# Altium footprint library ICs.PcbLib: 86 footprints (part 6 of 6)
Each footprint in its own frame and in the unit in brackets; x right, y up, seen from the top. Pads: shape width x height; smd on the part's side, far side on the other; paste and mask are expansions set on the pad; w line width, h text height; cw(c..) or ccw(c..) is an arc to the next point about the centre after c.
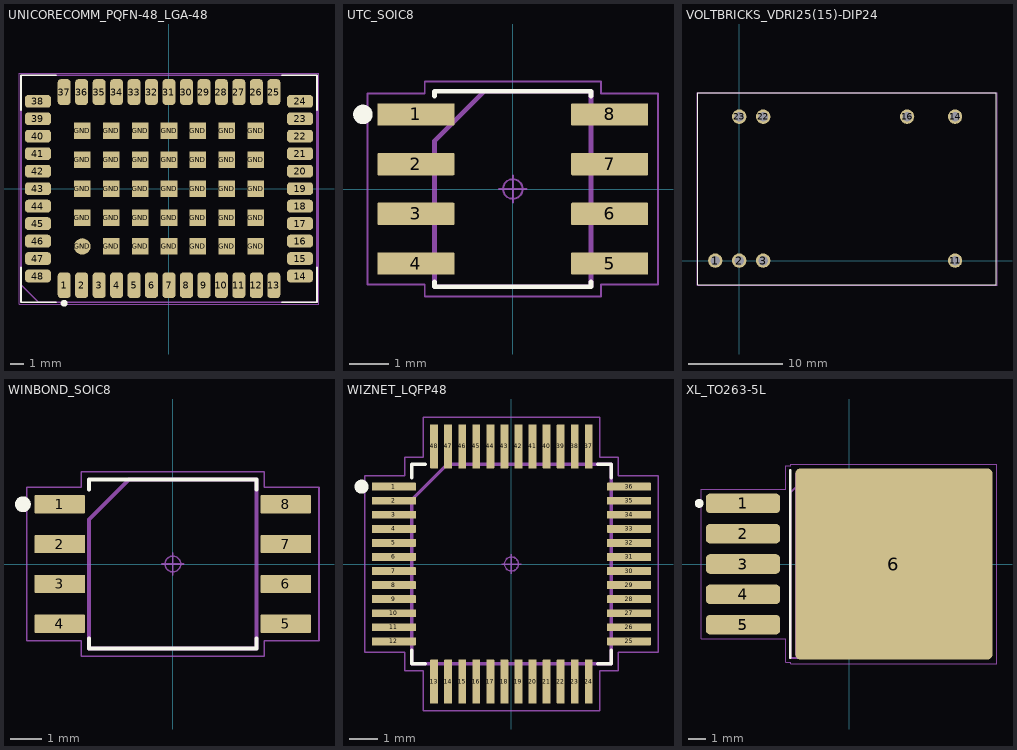
[diagram p5: the footprints below, top view; thin cyan lines are the x and y axes]

## UNICORECOMM_PQFN-48_LGA-48 [mm] "Pullback Quad Flat No-Lead (PQFN), 1.27 mm pitch; rect., 13 pin X 11 pin, 21.15 mm L X 16.15 mm W X 2.80 mm H body"
pads (83):
  rrect49% 0.93x1.87 smd: 1(-7.62,-7.02) 2(-6.35,-7.02) 3(-5.08,-7.02) 4(-3.81,-7.02) 5(-2.54,-7.02) 6(-1.27,-7.02) 7(0,-7.02) 8(1.27,-7.02) 9(2.54,-7.02) 10(3.81,-7.02) 11(5.08,-7.02) 12(6.35,-7.02) 13(7.62,-7.02) 25(7.62,7.02) 26(6.35,7.02) 27(5.08,7.02) 28(3.81,7.02) 29(2.54,7.02) 30(1.27,7.02) 31(0,7.02) 32(-1.27,7.02) 33(-2.54,7.02) 34(-3.81,7.02) 35(-5.08,7.02) 36(-6.35,7.02) 37(-7.62,7.02)
  rrect49% 1.87x0.93 smd: 14(9.52,-6.35) 15(9.52,-5.08) 16(9.52,-3.81) 17(9.52,-2.54) 18(9.52,-1.27) 19(9.52,0) 20(9.52,1.27) 21(9.52,2.54) 22(9.52,3.81) 23(9.52,5.08) 24(9.52,6.35) 38(-9.52,6.35) 39(-9.52,5.08) 40(-9.52,3.81) 41(-9.52,2.54) 42(-9.52,1.27) 43(-9.52,0) 44(-9.52,-1.27) 45(-9.52,-2.54) 46(-9.52,-3.81) 47(-9.52,-5.08) 48(-9.52,-6.35)
  round 1.2 smd: GND(-6.3,-4.2)
  rect 1.2x1.2 smd: GND(-6.3,-2.1) GND(-6.3,0) GND(-6.3,2.1) GND(-6.3,4.2) GND(-4.2,-4.2) GND(-4.2,-2.1) GND(-4.2,0) GND(-4.2,2.1) GND(-4.2,4.2) GND(-2.1,-4.2) GND(-2.1,-2.1) GND(-2.1,0) GND(-2.1,2.1) GND(-2.1,4.2) GND(0,-4.2) GND(0,-2.1) GND(0,0) GND(0,2.1) GND(0,4.2) GND(2.1,-4.2) GND(2.1,-2.1) GND(2.1,0) GND(2.1,2.1) GND(2.1,4.2) GND(4.2,-4.2) GND(4.2,-2.1) GND(4.2,0) GND(4.2,2.1) GND(4.2,4.2) GND(6.3,-4.2) GND(6.3,-2.1) GND(6.3,0) GND(6.3,2.1) GND(6.3,4.2)
Top Overlay:
  circle w0.25: c-7.62,-8.325 r0.125
  lines w0.12: -10.75,-5.71 -10.75,-8.25 -8.21,-8.25 ; -10.75,5.71 -10.75,8.25 -8.21,8.25 ; 8.21,-8.25 10.75,-8.25 10.75,-5.71 ; 8.21,8.25 10.75,8.25 10.75,5.71
Mechanical 11:
  lines w0.12: -10.75,-6.98 -10.75,8.25 10.75,8.25 10.75,-8.25 -9.48,-8.25 -10.75,-6.98
  text ".Designator" at -2.252,-0.226 h1
Mechanical 15:
  circle w0.05: c0,0 r0.25
  lines w0.05: -0.35,0 0.35,0 ; 0,-0.35 0,0.35 ; -10.9,-8.4 10.9,-8.4 10.9,8.4 -10.9,8.4 -10.9,-8.4
3D body "PQFN48P127_2115X1615X280L150X80.STEP": height 2.8, standoff 0, extent -10.75,-8.25 10.75,8.25

## UTC_SOIC8 [mm] "Small Outline IC (SOIC), 1.27 mm pitch; 8 pin, 4.90 mm L X 3.90 mm W X 1.75 mm H body"
pads (8):
  rrect10% 1.97x0.57 smd: 1(-2.475,1.905) 2(-2.475,0.635) 3(-2.475,-0.635) 4(-2.475,-1.905) 5(2.475,-1.905) 6(2.475,-0.635) 7(2.475,0.635) 8(2.475,1.905)
Top Overlay:
  circle w0.25: c-3.83,1.905 r0.125
  lines w0.12: -2,-2.37 -2,-2.5 2,-2.5 2,-2.37 ; -2,2.37 -2,2.5 2,2.5 2,2.37
Mechanical 11:
  lines w0.12: -2,-2.5 2,-2.5 2,2.5 -0.73,2.5 -2,1.23 -2,-2.5
  text ".Designator" at -2.252,-0.226 h1
Mechanical 15:
  circle w0.05: c0,0 r0.25
  lines w0.05: -0.35,0 0.35,0 ; 0,-0.35 0,0.35 ; -3.71,-2.44 -2.25,-2.44 -2.25,-2.75 2.25,-2.75 2.25,-2.44 3.71,-2.44 3.71,2.44 2.25,2.44 2.25,2.75 -2.25,2.75 -2.25,2.44 -3.71,2.44 -3.71,-2.44
3D body "UTC_SOIC8.STEP": height 1.75, standoff 0, extent -3.1,-2.5 3.1,2.5

## VOLTBRICKS_VDRI25(15)-DIP24 [mil]
pads (8):
  round 60 hole 39.37: 1(-100,0) 2(0,0) 3(100,0) 11(900,0) 14(900,600) 16(700,600) 22(100,600) 23(0,600)
Top Overlay:
  lines w4.72: -173,-100 -173,699.21 1071.09,699.21 1071.09,-100 -173,-100
Mechanical 2:
  lines w4.72: -176,-103 -176,700 1075,700 1075,-103 -176,-103
  text ".Designator" at 222.42,314.8 h78.74
3D body "URE_P-6WR3.stp": height 399.69, standoff -163.3, extent -173.07,-101 1071.07,698.29

## WINBOND_SOIC8 [mm] "Small Outline IC (SOIC), 1.27 mm pitch; 8 pin, 5.28 mm L X 5.23 mm W X 2.16 mm H body"
pads (8):
  rrect10% 1.61x0.58 smd: 1(-3.605,1.905) 2(-3.605,0.635) 3(-3.605,-0.635) 4(-3.605,-1.905) 5(3.605,-1.905) 6(3.605,-0.635) 7(3.605,0.635) 8(3.605,1.905)
Top Overlay:
  circle w0.25: c-4.78,1.905 r0.125
  lines w0.12: -2.67,-2.375 -2.67,-2.69 2.67,-2.69 2.67,-2.375 ; -2.67,2.375 -2.67,2.69 2.67,2.69 2.67,2.375
Mechanical 11:
  lines w0.12: -2.67,-2.69 -2.67,1.42 -1.4,2.69 2.67,2.69 2.67,-2.69 -2.67,-2.69
  text ".Designator" at -3.378,-0.339 h1.5
Mechanical 15:
  circle w0.05: c0,0 r0.25
  lines w0.05: -0.35,0 0.35,0 ; 0,-0.35 0,0.35 ; -4.66,-2.445 -4.66,2.445 -2.92,2.445 -2.92,2.94 2.92,2.94 2.92,2.445 4.66,2.445 4.66,-2.445 2.92,-2.445 2.92,-2.94 -2.92,-2.94 -2.92,-2.445 -4.66,-2.445
3D body "WINBOND_SOIC8.STEP": height 2.16, standoff 0, extent -4.05,-2.69 4.05,2.69

## WIZNET_LQFP48 [mm] "Quad Flat Pack (QFP), 0.50 mm pitch; square, 12 pin X 12 pin, 7.00 mm L X 7.00 mm W X 1.60 mm H body"
pads (48):
  rrect10% 1.56x0.28 smd: 1(-4.18,2.75) 2(-4.18,2.25) 3(-4.18,1.75) 4(-4.18,1.25) 5(-4.18,0.75) 6(-4.18,0.25) 7(-4.18,-0.25) 8(-4.18,-0.75) 9(-4.18,-1.25) 10(-4.18,-1.75) 11(-4.18,-2.25) 12(-4.18,-2.75) 25(4.18,-2.75) 26(4.18,-2.25) 27(4.18,-1.75) 28(4.18,-1.25) 29(4.18,-0.75) 30(4.18,-0.25) 31(4.18,0.25) 32(4.18,0.75) 33(4.18,1.25) 34(4.18,1.75) 35(4.18,2.25) 36(4.18,2.75)
  rrect10% 0.28x1.56 smd: 13(-2.75,-4.18) 14(-2.25,-4.18) 15(-1.75,-4.18) 16(-1.25,-4.18) 17(-0.75,-4.18) 18(-0.25,-4.18) 19(0.25,-4.18) 20(0.75,-4.18) 21(1.25,-4.18) 22(1.75,-4.18) 23(2.25,-4.18) 24(2.75,-4.18) 37(2.75,4.18) 38(2.25,4.18) 39(1.75,4.18) 40(1.25,4.18) 41(0.75,4.18) 42(0.25,4.18) 43(-0.25,4.18) 44(-0.75,4.18) 45(-1.25,4.18) 46(-1.75,4.18) 47(-2.25,4.18) 48(-2.75,4.18)
Top Overlay:
  circle w0.25: c-5.33,2.75 r0.125
  lines w0.12: -3.55,-3.07 -3.55,-3.55 -3.07,-3.55 ; -3.55,3.07 -3.55,3.55 -3.07,3.55 ; 3.07,-3.55 3.55,-3.55 3.55,-3.07 ; 3.07,3.55 3.55,3.55 3.55,3.07
Mechanical 11:
  lines w0.12: -3.55,-3.55 -3.55,2.28 -2.28,3.55 3.55,3.55 3.55,-3.55 -3.55,-3.55
  text ".Designator" at -4.511,-0.453 h2
Mechanical 15:
  circle w0.05: c0,0 r0.25
  lines w0.05: -0.35,0 0.35,0 ; 0,-0.35 0,0.35 ; -5.21,-3.14 -5.21,3.14 -3.8,3.14 -3.8,3.8 -3.14,3.8 -3.14,5.21 3.14,5.21 3.14,3.8 3.8,3.8 3.8,3.14 5.21,3.14 5.21,-3.14 3.8,-3.14 3.8,-3.8 3.14,-3.8 3.14,-5.21 -3.14,-5.21 -3.14,-3.8 -3.8,-3.8 -3.8,-3.14 -5.21,-3.14
3D body "WIZNET_LQFP48.STEP": height 1.6, standoff 0, extent -4.6,-4.6 4.6,4.6

## XL_TO263-5L [mm] "TO263-5L, DPAK, 1.70 mm pitch; 5 pin, 9.02 mm L X 10.16 mm W X 4.83 mm H body"
pads (6):
  rrect45% 4.17x1.1 smd: 1(-5.95,3.4) 2(-5.95,1.7) 3(-5.95,0) 4(-5.95,-1.7) 5(-5.95,-3.4)
  rrect5% 11.06x10.71 smd paste-11.06: 6(2.51,0)
Top Overlay:
  circle w0.25: c-8.405,3.4 r0.125
  lines w0.12: -3.305,-5.27 -3.305,5.27
Top Paste:
  drawing of 36 lines, arcs and shapes, not listed
Mechanical 11:
  lines w0.12: -3.305,-5.27 6.355,-5.27 6.355,5.27 -2.035,5.27 -3.305,4 -3.305,-5.27
  text ".Designator" at -2.378,-0.418 h1.5
Mechanical 12:
  lines w0.025: -2.985,-5.08 6.035,-5.08 6.035,5.08 -2.985,5.08 -2.985,-5.08
Mechanical 15:
  circle w0.05: c0,0 r0.25
  lines w0.05: -0.35,0 0.35,0 ; 0,-0.35 0,0.35 ; -8.285,-4.2 -3.55,-4.2 -3.55,-5.52 -3.27,-5.52 -3.27,-5.605 8.29,-5.605 8.29,5.605 -3.27,5.605 -3.27,5.52 -3.55,5.52 -3.55,4.2 -8.285,4.2 -8.285,-4.2
3D body "DPAK6P170_1466X483L270X86T965X1054.STEP": height 4.83, standoff 0, extent -7.33,-5.27 7.33,5.27